# EAGLE library part RFID-RC522 (library CaliBeta-Modulos)
Modulo RFID-RC522 basado en el integrado MFRC522
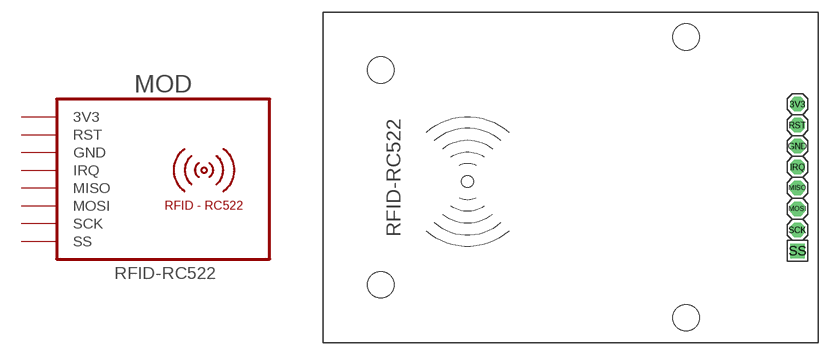
[diagram p5: symbol with the pads of RFID-RC522; footprint RFID-RC522]

Designator prefix MOD

## RFID-RC522  [RFID-RC522]
3V3  3V3  pwr
GND  GND  pwr
IRQ  IRQ
MISO  MISO
MOSI  MOSI
RST  RST
SCK  SCK
SS  SS

## Footprint RFID-RC522 (pad centres in mm)
drill 1 pad 1.778 octagon: 3V3 27.5,8.89; GND 27.5,3.81; IRQ 27.5,1.27; MISO 27.5,-1.27; MOSI 27.5,-3.81; RST 27.5,6.35; SCK 27.5,-6.35
drill 1 pad 1.778 square: SS 27.5,-8.89
hole 3.2 at -23,-13
hole 3.2 at -23,13
hole 3.2 at 14,17
hole 3.2 at 14,-17